# Altium footprint library EEG.PcbLib: 14 footprints
Each footprint in its own frame and in the unit in brackets; x right, y up, seen from the top. Pads: shape width x height; smd on the part's side, far side on the other; paste and mask are expansions set on the pad; w line width, h text height; cw(c..) or ccw(c..) is an arc to the next point about the centre after c.
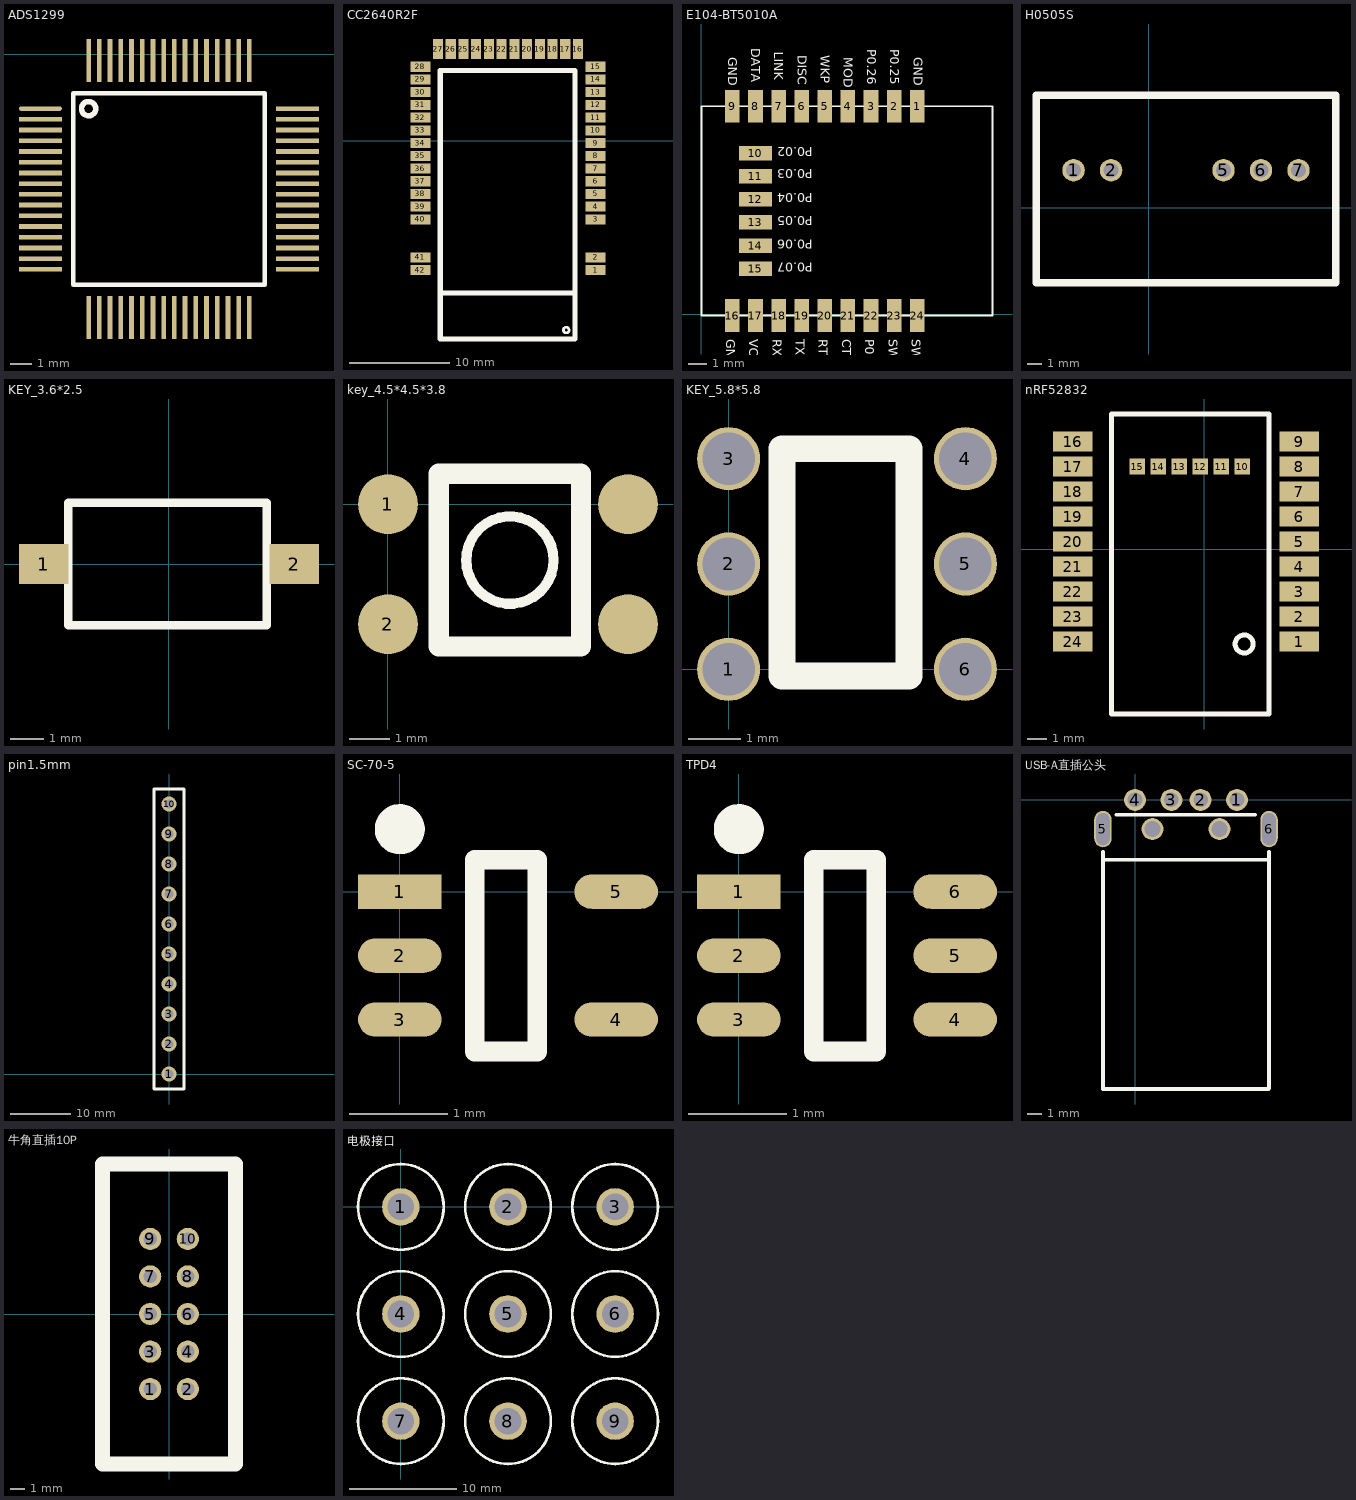
[diagram p0: the footprints below, top view; thin cyan lines are the x and y axes]

## ADS1299 [mm]
pads (64):
  oval 2x0.22 smd: 1(1.778,-2.54)
  rect 2x0.22 smd: 2(1.778,-3.04) 3(1.778,-3.54) 4(1.778,-4.04) 5(1.778,-4.54) 6(1.778,-5.04) 7(1.778,-5.54) 8(1.778,-6.04) 9(1.778,-6.54) 10(1.778,-7.04) 11(1.778,-7.54) 12(1.778,-8.04) 13(1.778,-8.54) 14(1.778,-9.04) 15(1.778,-9.54) 16(1.778,-10.04) 33(13.778,-10.04) 34(13.778,-9.54) 35(13.778,-9.04) 36(13.778,-8.54) 37(13.778,-8.04) 38(13.778,-7.54) 39(13.778,-7.04) 40(13.778,-6.54) 41(13.778,-6.04) 42(13.778,-5.54) 43(13.778,-5.04) 44(13.778,-4.54) 45(13.778,-4.04) 46(13.778,-3.54) 47(13.778,-3.04) 48(13.778,-2.54)
  rect 0.22x2 smd: 17(4.028,-12.29) 18(4.528,-12.29) 19(5.028,-12.29) 20(5.528,-12.29) 21(6.028,-12.29) 22(6.528,-12.29) 23(7.028,-12.29) 24(7.528,-12.29) 25(8.028,-12.29) 26(8.528,-12.29) 27(9.028,-12.29) 28(9.528,-12.29) 29(10.028,-12.29) 30(10.528,-12.29) 31(11.028,-12.29) 32(11.528,-12.29) 49(11.528,-0.29) 50(11.028,-0.29) 51(10.528,-0.29) 52(10.028,-0.29) 53(9.528,-0.29) 54(9.028,-0.29) 55(8.528,-0.29) 56(8.028,-0.29) 57(7.528,-0.29) 58(7.028,-0.29) 59(6.528,-0.29) 60(6.028,-0.29) 61(5.528,-0.29) 62(5.028,-0.29) 63(4.528,-0.29) 64(4.028,-0.29)
Top Overlay:
  circle w0.254: c4.026,-2.54 r0.333
  lines w0.2: 3.313,-10.755 12.243,-10.755 12.243,-1.825 4.848,-1.825 4.3,-1.825 4.026,-1.825 3.313,-1.825 3.313,-3.36 3.313,-10.755

## CC2640R2F [mm]
pads (42):
  rect 2x1 smd: 1(-13.081,-12.944) 2(-13.081,-11.674) 3(-13.081,-7.874) 4(-13.081,-6.604) 5(-13.081,-5.334) 6(-13.081,-4.064) 7(-13.081,-2.794) 8(-13.081,-1.524) 9(-13.081,-0.254) 10(-13.081,1.016) 11(-13.081,2.286) 12(-13.081,3.556) 13(-13.081,4.826) 14(-13.081,6.096) 15(-13.081,7.366) 28(-30.551,7.366) 29(-30.551,6.096) 30(-30.551,4.826) 31(-30.551,3.556) 32(-30.551,2.286) 33(-30.551,1.016) 34(-30.551,-0.254) 35(-30.551,-1.524) 36(-30.551,-2.794) 37(-30.551,-4.064) 38(-30.551,-5.334) 39(-30.551,-6.604) 40(-30.551,-7.874) 41(-30.551,-11.674) 42(-30.551,-12.944)
  rect 1x2 smd: 16(-14.831,9.136) 17(-16.101,9.136) 18(-17.371,9.136) 19(-18.641,9.136) 20(-19.911,9.136) 21(-21.181,9.136) 22(-22.451,9.136) 23(-23.721,9.136) 24(-24.991,9.136) 25(-26.261,9.136) 26(-27.531,9.136) 27(-28.801,9.136)
Top Overlay:
  circle w0.254: c-16.002,-18.923 r0.284
  lines w0.508: -28.575,-15.24 -15.113,-15.24 ; -28.575,-19.812 -28.575,6.985 -15.113,6.985 -15.113,-19.812 -28.575,-19.812

## E104-BT5010A [mm]
pads (24):
  rect 0.8x1.8 smd: 1(11.86,11.43) 2(10.59,11.43) 3(9.32,11.43) 4(8.05,11.43) 5(6.78,11.43) 6(5.51,11.43) 7(4.24,11.43) 8(2.97,11.43) 9(1.7,11.43) 16(1.7,-0.07) 17(2.97,-0.07) 18(4.24,-0.07) 19(5.51,-0.07) 20(6.78,-0.07) 21(8.05,-0.07) 22(9.32,-0.07) 23(10.59,-0.07) 24(11.86,-0.07)
  rect 1.8x0.8 smd: 10(2.97,8.855) 11(2.97,7.585) 12(2.97,6.315) 13(2.97,5.045) 14(2.97,3.775) 15(2.97,2.505)
Top Overlay:
  lines w0.1: 0,-0.07 16,-0.07 16,11.43 0,11.43 0,-0.07
  text "GND" at 11.66,14.139 h0.5
  text "P0.25" at 10.385,14.567 h0.5
  text "P0.26" at 9.11,14.567 h0.5
  text "MOD" at 7.835,14.139 h0.5
  text "WKP" at 6.56,14.242 h0.5
  text "DISC" at 5.285,14.236 h0.5
  text "LINK" at 4.01,14.427 h0.5
  text "DATA" at 2.735,14.63 h0.5
  text "VCC" at 2.635,-1.361 h0.5
  text "RXD" at 3.91,-1.361 h0.5
  text "TXD" at 5.185,-1.361 h0.5
  text "RTS" at 6.46,-1.361 h0.5
  text "CTS" at 7.735,-1.361 h0.5
  text "P0.21/RST" at 9.01,-1.361 h0.5
  text "SWDCLK" at 10.285,-1.361 h0.5
  text "SWDIO" at 11.56,-1.361 h0.5
  text "P0.07" at 6.123,2.835 h0.5
  text "P0.05" at 6.123,5.375 h0.5
  text "P0.04" at 6.123,6.645 h0.5
  text "P0.02" at 6.123,9.174 h0.5
  text "P0.06" at 6.123,4.105 h0.5
  text "P0.03" at 6.123,7.976 h0.5
  text "GND" at 1.46,14.139 h0.5
  text "GND" at 1.36,-1.361 h0.5

## H0505S [mil] "H0505S"
pads (5):
  round 60 hole 39.37: 1(-200,100) 2(-100,100) 5(200,100) 6(300,100) 7(400,100)
Top Overlay:
  lines w20: -300,-200 500,-200 500,300 -300,300 -300,-200

## KEY_3.6*2.5 [mm]
pads (2):
  rect 1.5x1.2 smd: 1(-3.784,0) 2(3.785,0)
Top Overlay:
  lines w0.254: -3.048,-1.85 2.952,-1.85 2.952,1.85 -3.048,1.85 -3.048,-1.85

## key_4.5*4.5*3.8 [mm]
pads (4):
  round 1.5 smd: 1(0,0) 2(0,-3) ""(6,-3) ""(6,0)
Top Overlay:
  circle w0.254: c3.048,-1.397 r1.092
  lines w0.508: 1.27,-3.556 4.826,-3.556 4.826,0.762 1.27,0.762 1.27,-3.556

## KEY_5.8*5.8 [mm] "KEY_5.8*5.8"
pads (6):
  round 1.2 hole 1: 1(0,0) 2(0,2) 3(0,4) 4(4.5,4) 5(4.5,2) 6(4.5,0)
Top Overlay:
  lines w0.508: 1.016,-0.127 1.016,4.191 3.429,4.191 3.429,-0.127 1.016,-0.127

## nRF52832 [mm]
pads (24):
  rect 2x1 smd: 1(4.826,-4.699) 2(4.826,-3.429) 3(4.826,-2.159) 4(4.826,-0.889) 5(4.826,0.381) 6(4.826,1.651) 7(4.826,2.921) 8(4.826,4.191) 9(4.826,5.461) 16(-6.674,5.461) 17(-6.674,4.191) 18(-6.674,2.921) 19(-6.674,1.651) 20(-6.674,0.381) 21(-6.674,-0.889) 22(-6.674,-2.159) 23(-6.674,-3.429) 24(-6.674,-4.699)
  rect 0.8x0.8 smd: 10(1.93,4.191) 11(0.864,4.191) 12(-0.203,4.191) 13(-1.27,4.191) 14(-2.337,4.191) 15(-3.404,4.191)
Top Overlay:
  circle w0.254: c2.032,-4.826 r0.458
  lines w0.254: -4.699,-8.382 3.302,-8.382 3.302,6.858 -4.699,6.858 -4.699,-8.382

## pin1.5mm [mm]
pads (10):
  round 2.5 hole 1.5: 1(0,0) 2(0,5) 3(0,10) 4(0,15) 5(0,20) 6(0,25) 7(0,30) 8(0,35) 9(0,40) 10(0,45)
Top Overlay:
  lines w0.508: -2.5,-2.5 -2.5,47.5 2.5,47.5 2.5,-2.5 -2.5,-2.5

## SC-70-5 [mm]
pads (5):
  rect 0.85x0.35 smd: 1(0,0)
  oval 0.85x0.35 smd: 2(0,-0.65) 3(0,-1.3) 4(2.2,-1.3) 5(2.2,0)
Top Overlay:
  circle w0.254: c0,0.635 r0.127
  lines w0.2: 0.938,0.325 1.397,0.325 1.397,-1.625 0.762,-1.625 0.762,0.325 1.262,0.325

## TPD4 [mm]
pads (6):
  rect 0.85x0.35 smd: 1(0,0)
  oval 0.85x0.35 smd: 2(0,-0.65) 3(0,-1.3) 4(2.2,-1.3) 5(2.2,-0.65) 6(2.2,0)
Top Overlay:
  circle w0.254: c0,0.635 r0.127
  lines w0.2: 0.938,0.325 1.397,0.325 1.397,-1.625 0.762,-1.625 0.762,0.325 1.262,0.325

## USB-A直插公头 [mm]
pads (8):
  round 1.5 hole 1: 1(7,0) 2(4.5,0) 3(2.5,0) 4(0,0)
  oval 1.2x2.5 hole 2.2 slot 0.9 at 0 deg: 5(-2.2,-2) 6(9.2,-2)
  round 1.5 hole 1.1: ""(1.2,-2) ""(5.8,-2)
Top Overlay:
  lines w0.254: -2.2,-19.844 9.188,-19.844 ; -2.2,-19.812 -2.2,-3.556 ; -2.2,-4.112 9.188,-4.112 ; -1.27,-1.016 8.255,-1.016 ; 9.2,-19.8 9.2,-3.556

## 牛角直插10P [mm]
pads (10):
  round 1.5 hole 0.9: 1(-1.27,-5.08) 2(1.27,-5.08) 3(-1.27,-2.54) 4(1.27,-2.54) 5(-1.27,0) 6(1.27,0) 7(-1.27,2.54) 8(1.27,2.54) 9(-1.27,5.08) 10(1.27,5.08)
Top Overlay:
  lines w1.016: -4.5,-10.15 -4.5,10.15 4.5,10.15 4.5,-10.15 -4.5,-10.15

## 电极接口 [mm]
pads (9):
  round 3.5 hole 2.5: 1(0,0) 2(10,0) 3(20,0) 4(0,-10) 5(10,-10) 6(20,-10) 7(0,-20) 8(10,-20) 9(20,-20)
Top Overlay:
  circle w0.254: c20,0 r4
  circle w0.254: c20,-10 r4
  circle w0.254: c20,-20 r4
  circle w0.254: c10,0 r4
  circle w0.254: c10,-10 r4
  circle w0.254: c10,-20 r4
  circle w0.254: c0,-20 r4
  circle w0.254: c0,-10 r4
  circle w0.254: c0,0 r4